# Altium schematic symbol library 0901301112.SchLib: 1 symbol
Pins are listed as number, name and electrical type; pins without a type are passive.

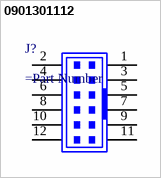
[diagram p0: symbol 0901301112]

## 0901301112
designator J?
=Description; ComponentLink1Description: Datasheet
pins: 1, 2, 3, 4, 5, 6, 7, 8, 9, 10, 11, 12